# Altium schematic symbol library MPU-6500.SchLib: 1 symbol
Pins are listed as number, name and electrical type; pins without a type are passive.

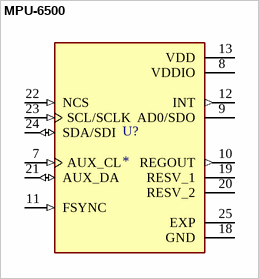
[diagram p0: symbol MPU-6500]

## MPU-6500
designator U?
MotionTracking Device Digital Output 1.8V 24-Pin QFN EP T/R; MF: TDK InvenSense; SnapEDA_Link: https://www.snapeda.com/parts/MPU-6500/TDK/view-part/?ref=snap; Package: QFN-24 TDK; Value: *; MP: MPU-6500; Check_prices: https://www.snapeda.com/parts/MPU-6500/TDK/view-part/?ref=eda; LCSC Part Number: C50278
footprint QFN40P300X300X95-25N
pins: 7 AUX_CL (in), 8 VDDIO (power), 9 AD0/SDO (power), 10 REGOUT (out), 11 FSYNC (in), 12 INT (out), 13 VDD (power), 18 GND (power), 19 RESV_1, 20 RESV_2, 21 AUX_DA (io), 22 NCS (in), 23 SCL/SCLK (in), 24 SDA/SDI (io), 25 EXP